# EAGLE library part ATMEGA328P-28 (library PiB_ic_microcontrollers)
ATMEGA328P 28PIN IC
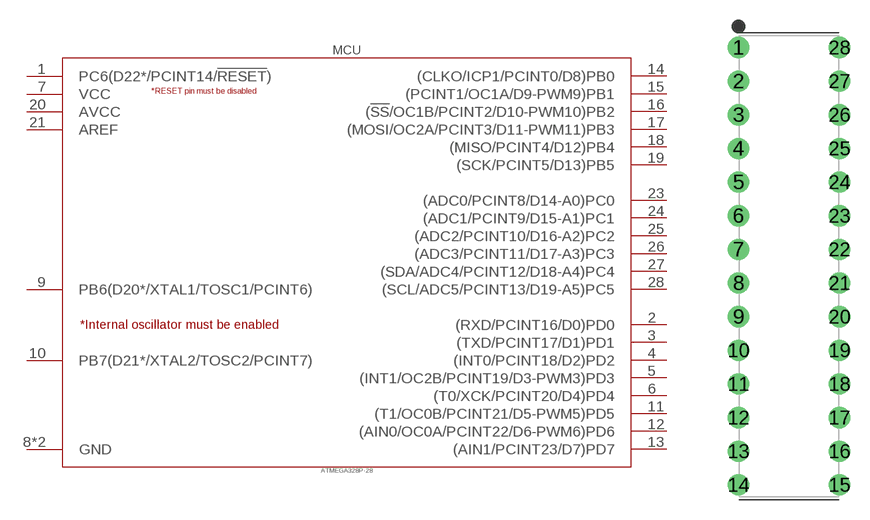
[diagram p1: symbol with the pads of DIP762W53P254L3467H472Q28B; footprint DIP762W53P254L3467H472Q28B]

Designator prefix MCU

## ATMEGA328P-28_28-PDIP_8BIT_32KB (DATASHEET: http://ww1.microchip.com/downloads/en/DeviceDoc/Atmel-42735-8-bit-AVR-Microcontroller-ATmega328-328P_Datasheet.pdf; DIST: Digikey; DISTLINK: https://www.digikey.com/products/en?keywords=ATMEGA328P-PU-ND; DISTPN: ATMEGA328P-PU-ND; MFR: Microchip Technology; MPN: ATMEGA328P-PU; VALUE: ATMEGA328p)  [DIP762W53P254L3467H472Q28B]
1  PC6(D22*/PCINT14/!RESET!)
2  (RXD/PCINT16/D0)PD0
3  (TXD/PCINT17/D1)PD1
4  (INT0/PCINT18/D2)PD2
5  (INT1/OC2B/PCINT19/D3-PWM3)PD3
6  (T0/XCK/PCINT20/D4)PD4
7  VCC  pwr
8  GND  pwr
9  PB6(D20*/XTAL1/TOSC1/PCINT6)
10  PB7(D21*/XTAL2/TOSC2/PCINT7)
11  (T1/OC0B/PCINT21/D5-PWM5)PD5
12  (AIN0/OC0A/PCINT22/D6-PWM6)PD6
13  (AIN1/PCINT23/D7)PD7
14  (CLKO/ICP1/PCINT0/D8)PB0
15  (PCINT1/OC1A/D9-PWM9)PB1
16  (!SS!/OC1B/PCINT2/D10-PWM10)PB2
17  (MOSI/OC2A/PCINT3/D11-PWM11)PB3
18  (MISO/PCINT4/D12)PB4
19  (SCK/PCINT5/D13)PB5
20  AVCC  pwr
21  AREF  pas
22  GND  pwr
23  (ADC0/PCINT8/D14-A0)PC0
24  (ADC1/PCINT9/D15-A1)PC1
25  (ADC2/PCINT10/D16-A2)PC2
26  (ADC3/PCINT11/D17-A3)PC3
27  (SDA/ADC4/PCINT12/D18-A4)PC4
28  (SCL/ADC5/PCINT13/D19-A5)PC5

## Footprint DIP762W53P254L3467H472Q28B (pad centres in mm)
28-DIP, 2.54 mm (0.10 in) pitch, 7.62 mm (0.30 in) span, 34.67 X 7.30 X 4.72 mm body 28-pin DIP package with 2.54 mm (0.10 in) pitch, 7.62 mm (0.30 in) span with body size 34.67 X 7.30 X 4.72 mm
drill 0.799 pad 1.599: 1 -3.81,16.51; 2 -3.81,13.97; 3 -3.81,11.43; 4 -3.81,8.89; 5 -3.81,6.35; 6 -3.81,3.81; 7 -3.81,1.27; 8 -3.81,-1.27; 9 -3.81,-3.81; 10 -3.81,-6.35; 11 -3.81,-8.89; 12 -3.81,-11.43; 13 -3.81,-13.97; 14 -3.81,-16.51; 15 3.81,-16.51; 16 3.81,-13.97; 17 3.81,-11.43; 18 3.81,-8.89; 19 3.81,-6.35; 20 3.81,-3.81; 21 3.81,-1.27; 22 3.81,1.27; 23 3.81,3.81; 24 3.81,6.35; 25 3.81,8.89; 26 3.81,11.43; 27 3.81,13.97; 28 3.81,16.51